# Altium schematic symbol library kont_lineP-C.SchLib: 45 symbols
Pins are listed as number, name and electrical type; pins without a type are passive.

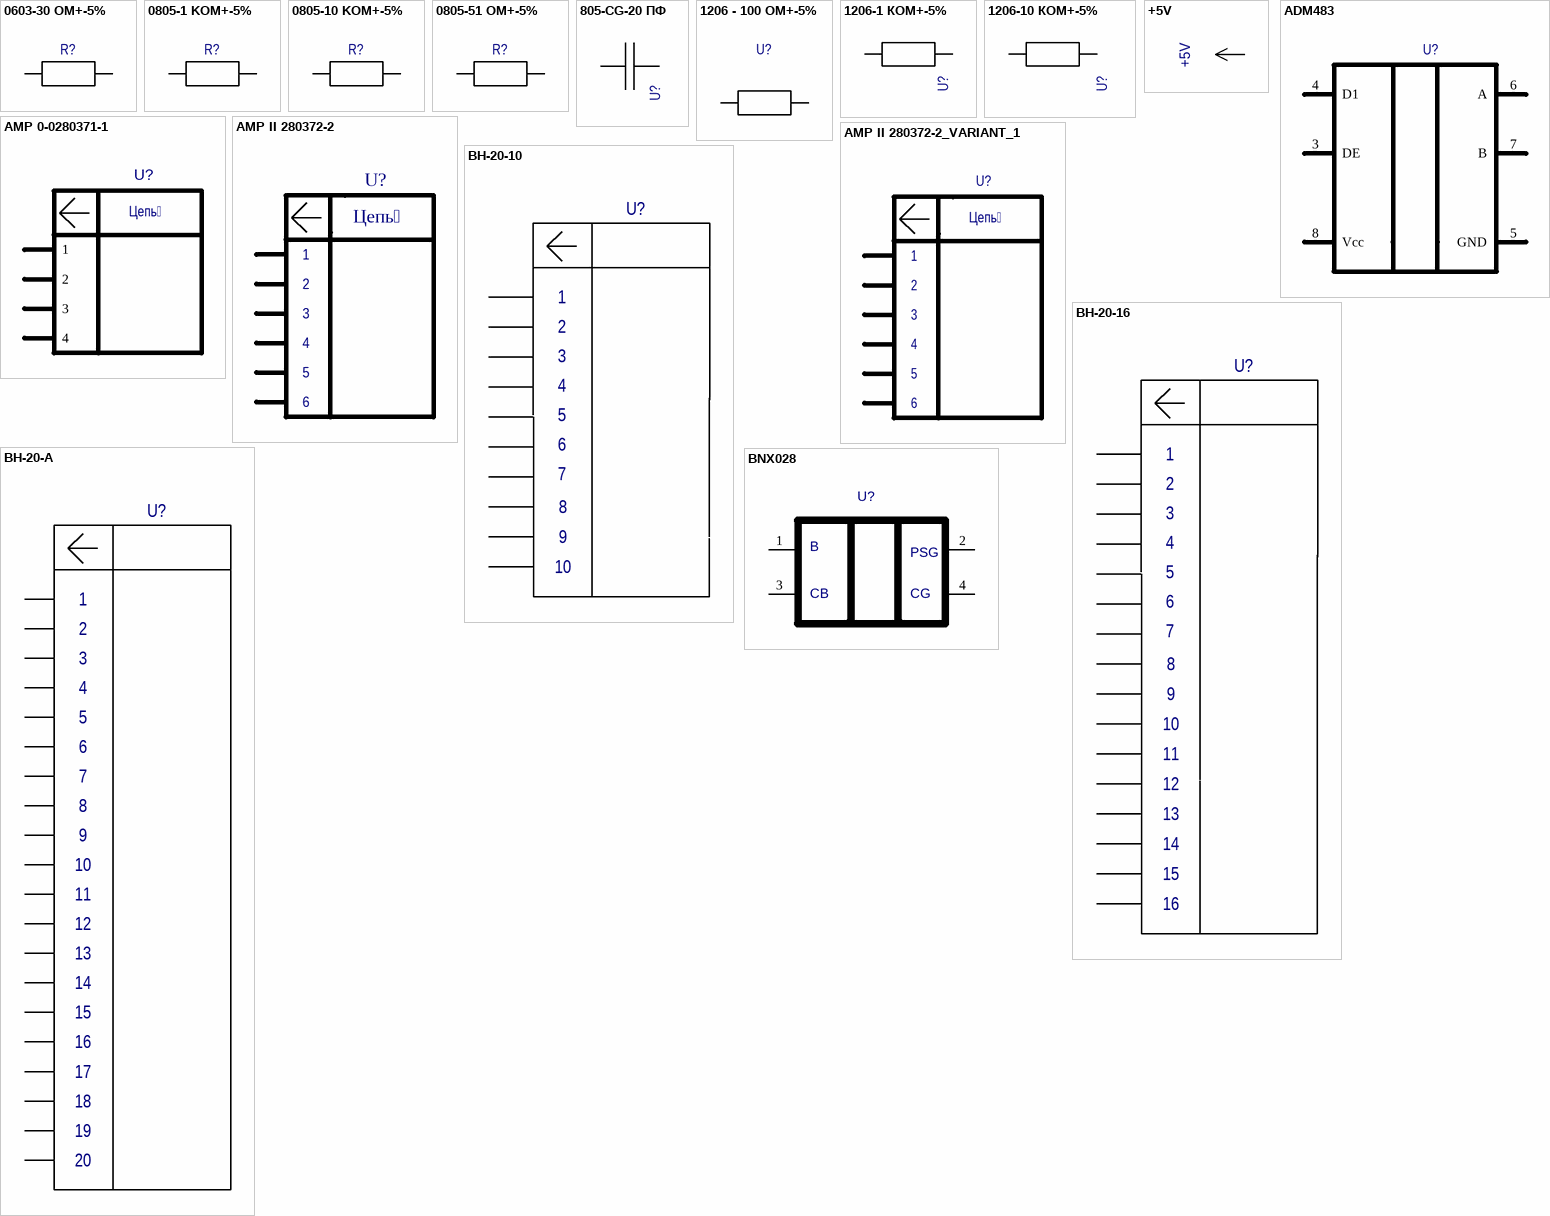
[diagram p0: symbols 0603-30 ОМ+-5% to BNX028]

## 0603-30 ОМ+-5%
designator R?  (value not drawn)
Value: *
footprint 0603
pins: 1, 2

## 0805-1 KОМ+-5%
designator R?  (value not drawn)
Value: *
footprint 0805
pins: 1, 2

## 0805-10 KОМ+-5%
designator R?  (value not drawn)
Value: *
footprint 0805
pins: 1, 2

## 0805-51 ОМ+-5%
designator R?  (value not drawn)
Value: *
footprint 0805
pins: 1, 2

## 805-CG-20 ПФ
designator U?  (value not drawn)
Value: *
pins: 1, 2

## 1206 - 100 ОМ+-5%
designator U?  (value not drawn)
Value: *
pins: 1, 2

## 1206-1 КОМ+-5%
designator U?  (value not drawn)
Value: *
pins: 1, 2

## 1206-10 КОМ+-5%
designator U?  (value not drawn)
Value: *
pins: 1, 2

## +5V
designator PWR?
Value: *
pins: 1 +5V (power)

## ADM483
designator U?  (value not drawn)
Value: *
pins: 3 DE, 4 D1, 5 GND, 6  A, 7 B, 8 Vcc

## AMP 0-0280371-1
designator U?  (value not drawn)
Value: *
pins: 1, 2, 3, 4
text: Цепь

## AMP II 280372-2
designator U?  (value not drawn)
Value: *
pins: 1, 2, 3, 4, 5, 6
text: Цепь

## AMP II 280372-2_VARIANT_1
designator U?, comment AMP II 280372-2  (value not drawn)
AMP II 280372-2_VARIANT_1; Value: *
pins: 1, 2, 3, 4, 5, 6
text: Цепь

## BH-20-10
designator U?  (value not drawn)
Value: *
pins: 21 0, 22 1, 23 2, 24 3, 25 4, 26 5, 27 6, 28 7, 29 0, 30 1
text: 8; 9; 10

## BH-20-16
designator U?  (value not drawn)
Value: *
pins: 21 0, 22 1, 23 2, 24 3, 25 4, 26 5, 27 6, 28 7, 29 0, 30 1, 31 2, 32 3, 33 4, 34 5, 35 6, 36 7
text: 8; 9; 10; 11; 12; 13; 14; 15; 16

## BH-20-A
designator U?  (value not drawn)
Value: *
pins: 1, 2, 3, 4, 5, 6, 7, 8, 9, 10, 11, 12, 13, 14, 15, 16, 17, 18, 19, 20

## BNX028
designator U?  (value not drawn)
Value: *
pins: 1, 2, 3, 4
text: B; PSG; CB; CG

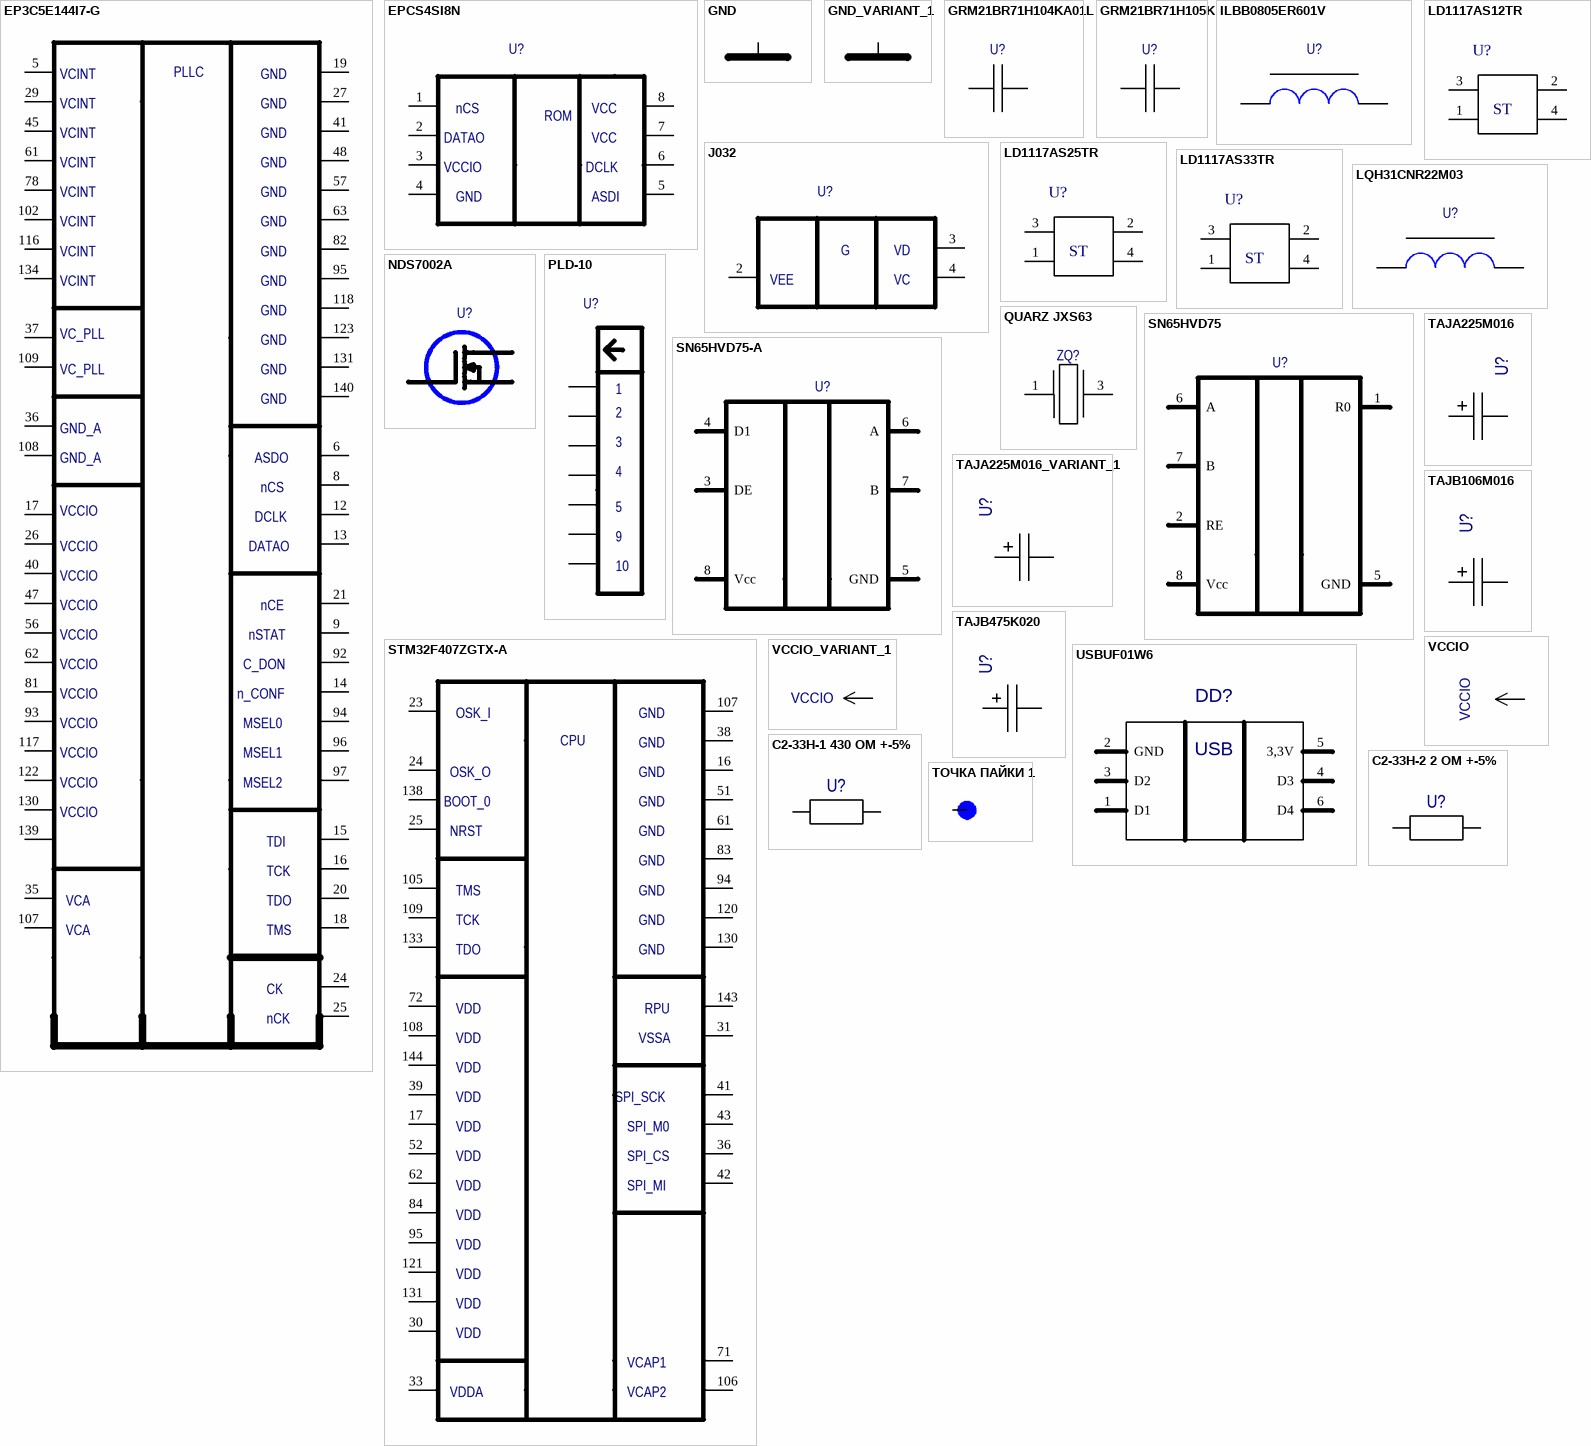
[diagram p1: symbols EP3C5E144I7-G to ТОЧКА ПАЙКИ 1]

## EP3C5E144I7-G
designator U?  (value not drawn)
Value: *
pins: 5, 6, 8, 9, 12, 13, 14, 15, 16, 17, 18 0, 19, 20, 21, 24 0, 25 0, 26, 27, 29, 35, 36, 37, 40, 41, 45, 47, 48, 56, 57, 61, 62, 63, 78, 81, 82, 92, 93, 94, 95, 96, 97, 102, 107, 108, 109, 116, 117, 118, 122, 123, 130, 131, 134, 139, 140
text: PLLC; VCINT; GND; VC_PLL; GND_A; ASDO; nCS; VCCIO; DCLK; DATAO; nCE; nSTAT; C_DON; n_CONF; MSEL0; MSEL1; MSEL2; TDI; TCK; VCA; TDO; TMS; CK; nCK

## EPCS4SI8N
designator U?  (value not drawn)
Value: *
pins: 1, 2, 3, 4, 5, 6, 7, 8
text: ROM; nCS; VCC; DATAO; VCCIO; DCLK; GND; ASDI

## GND
designator PWR?  (value not drawn)
Value: *
pins: 1 GND (power)

## GND_VARIANT_1
designator PWR?, comment GND  (value not drawn)
GND_VARIANT_1; Value: *
pins: 1 GND (power)

## GRM21BR71H104KA01L
designator U?  (value not drawn)
Value: *
pins: 1, 2

## GRM21BR71H105K
designator U?  (value not drawn)
Value: *
pins: 1, 2

## ILBB0805ER601V
designator U?  (value not drawn)
Value: *
pins: 1, 2

## J032
designator U?  (value not drawn)
Value: *
pins: 2, 3, 4
text: G; VD; VEE; VC

## LD1117AS12TR
designator U?  (value not drawn)
Value: *
pins: 1, 2, 3, 4
text: ST

## LD1117AS25TR
designator U?  (value not drawn)
Value: *
pins: 1, 2, 3, 4
text: ST

## LD1117AS33TR
designator U?  (value not drawn)
Value: *
pins: 1, 2, 3, 4
text: ST

## LQH31CNR22M03
designator U?  (value not drawn)
Value: *
pins: 1, 2

## NDS7002A
designator U?  (value not drawn)
Value: *
pins: 1 0, 2 1, 3 2

## PLD-10
designator U?  (value not drawn)
Value: *
pins: 1, 2, 3, 4, 5, 9, 10

## QUARZ JXS63
designator ZQ?  (value not drawn)
Value: *
footprint JXS63
pins: 1 0, 2 hidden, 3 1, 4 hidden

## SN65HVD75
designator U?  (value not drawn)
Value: *
pins: 1 R0, 2 RE, 5 GND, 6 A, 7 B, 8 Vcc

## SN65HVD75-A
designator U?  (value not drawn)
Value: *
pins: 3 DE, 4 D1, 5 GND, 6  A, 7 B, 8 Vcc

## STM32F407ZGTX-A
designator U?  (value not drawn)
Value: *
pins: 16, 17, 23, 24 3, 25, 30, 31, 33, 36, 38, 39, 41, 42, 43, 51, 52, 61, 62, 71, 72, 83, 84, 94, 95, 105, 106, 107, 108, 109, 120, 121, 130, 131, 133, 138, 143, 144
text: OSK_I; GND; CPU; OSK_O; BOOT_0; NRST; TMS; TCK; TDO; VDD; RPU; VSSA; SPI_SCK; SPI_M0; SPI_CS; SPI_MI; VCAP1; VDDA; VCAP2

## TAJA225M016
designator U?  (value not drawn)
Value: *
pins: 1, 2

## TAJA225M016_VARIANT_1
designator U?, comment TAJA225M016  (value not drawn)
TAJA225M016_VARIANT_1; Value: *
pins: 1, 2

## TAJB106M016
designator U?  (value not drawn)
Value: *
pins: 1, 2

## TAJB475K020
designator U?  (value not drawn)
Value: *
pins: 1, 2

## USBUF01W6
designator DD?  (value not drawn)
Value: *
pins: 1 D1, 2 GND (power), 3 D2, 4 D3, 5 3,3V (power), 6 D4
text: USB

## VCCIO
designator PWR?
Value: *
pins: 1 VCCIO (power)

## VCCIO_VARIANT_1
designator PWR?, comment VCCIO
VCCIO_VARIANT_1; Value: *
pins: 1 VCCIO (power)

## С2-33Н-1 430 ОМ +-5%
designator U?  (value not drawn)
Value: *
pins: 1, 2

## С2-33Н-2 2 ОМ +-5%
designator U?  (value not drawn)
Value: *
pins: 1, 2

## ТОЧКА ПАЙКИ 1
designator T?  (value not drawn)
Value: *
footprint LEPESTOK7_750_224
pins: 1